# EAGLE library part IRF9953PBF (library PassTransistor)
IRF9953PbF: Dual P-Channel Mosfet Specifications: Manufacturer: Infineon Technologies FET Type: 2 P-Channel (Dual) Vdss: 30V Id Max: 2.3A Rds On (Max): 250 mOhm @ 1A, 10V Package: 8-SOIC Datasheet: IRF9953PbF <https://www.infineon.com/dgdl/irf9953pbf.pdf?fileId=5546d462533600a40153561208041dd7> Digi-Key Part #: IRF9953PBFCT-ND <https://www.digikey.com/product-detail/en/infineon-technologies/IRF9953TRPBF/IRF9953PBFCT-ND/827900>
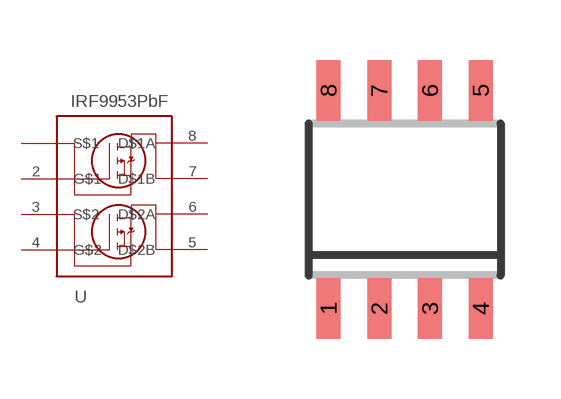
[diagram p0: symbol with the pads of SO-8; footprint SO-8]

Designator prefix U

## IRF9953PBF  [SO-8]
1  S$1
2  G$1
3  S$2
4  G$2
5  D$2B
6  D$2A
7  D$1B
8  D$1A

## Footprint SO-8 (pad centres in mm)
Small Outline Narrow Plastic Gull Wing SO-8 CASE 751-07 150-mil body, package type SN SOurce: http://www.onsemi.com/pub/Collateral/NUD4001-D.PDF
smd 0.6 x 1.52: 1 -1.905,-2.725; 2 -0.635,-2.725; 3 0.635,-2.725; 4 1.905,-2.725; 5 1.905,2.725; 6 0.635,2.725; 7 -0.635,2.725; 8 -1.905,2.725